# Altium footprint library 430450622.PcbLib: 1 footprints
Each footprint in its own frame and in the unit in brackets; x right, y up, seen from the top. Pads: shape width x height; smd on the part's side, far side on the other; paste and mask are expansions set on the pad; w line width, h text height; cw(c..) or ccw(c..) is an arc to the next point about the centre after c.
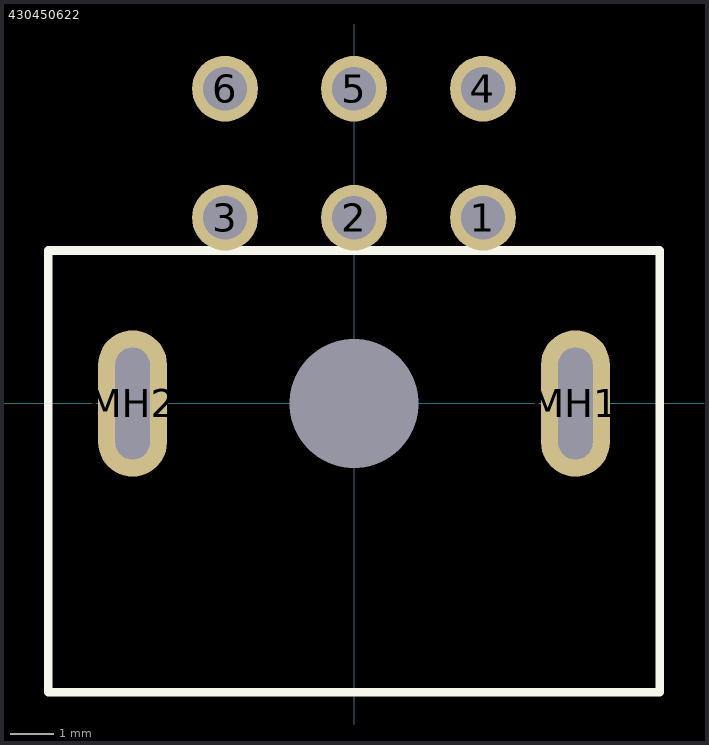
[diagram p0: the footprint, top view; thin cyan lines are the x and y axes]

## 430450622 [mm] "6 POS RA MOLEX"
pads (9):
  round 1.53 hole 1.02: 1(3,4.32) 2(0,4.32) 3(-3,4.32) 4(3,7.32) 5(0,7.32) 6(-3,7.32)
  round 0 hole 3: MH(0,0)
  oval 1.6x3.4 hole 0.8 slot 2.6 at 90 deg: MH1(5.15,0) MH2(-5.15,0)
Top Overlay:
  lines w0.203: -7.112,-6.714 -7.112,3.556 7.112,3.556 7.112,-6.714 -7.112,-6.714
3D body "430450622.stp": height 3.12, standoff -8.83, extent -6.625,-4.655 6.575,7.585